# Altium integrated library LAN.IntLib: 2 symbols
Pins are listed as number, name and electrical type; pins without a type are passive.

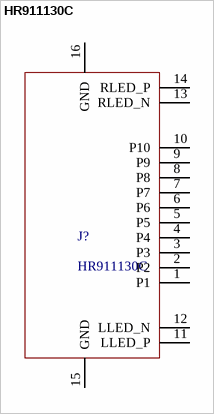
[diagram p0: symbol HR911130C]

## HR911130C
designator J?
footprint HR911130C
pins: 1 P1, 2 P2, 3 P3, 4 P4, 5 P5, 6 P6, 7 P7, 8 P8, 9 P9, 10 P10, 11 LLED_P, 12 LLED_N, 13 RLED_N, 14 RLED_P, 15 GND, 16 GND


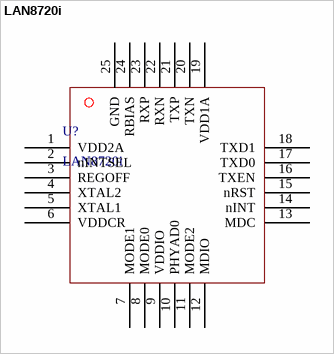
[diagram p1: symbol LAN8720i]

## LAN8720i
designator U?
footprint LAN8720/LAN8720i(QFN50P400X400X100-24N) (QFN, 24-Leads, Body 4.2x4.2mm (max), Pitch 0.50mm, IPC Medium Density)
pins: 1 VDD2A, 2 nINTSEL, 3 REGOFF, 4 XTAL2, 5 XTAL1, 6 VDDCR, 7 MODE1, 8 MODE0, 9 VDDIO, 10 PHYAD0, 11 MODE2, 12 MDIO, 13 MDC, 14 nINT, 15 nRST, 16 TXEN, 17 TXD0, 18 TXD1, 19 VDD1A, 20 TXN, 21 TXP, 22 RXN, 23 RXP, 24 RBIAS, 25 GND